# Altium footprint library QFN16P65_400X400X75L55X30T210N.PcbLib: 1 footprints
Each footprint in its own frame and in the unit in brackets; x right, y up, seen from the top. Pads: shape width x height; smd on the part's side, far side on the other; paste and mask are expansions set on the pad; w line width, h text height; cw(c..) or ccw(c..) is an arc to the next point about the centre after c.
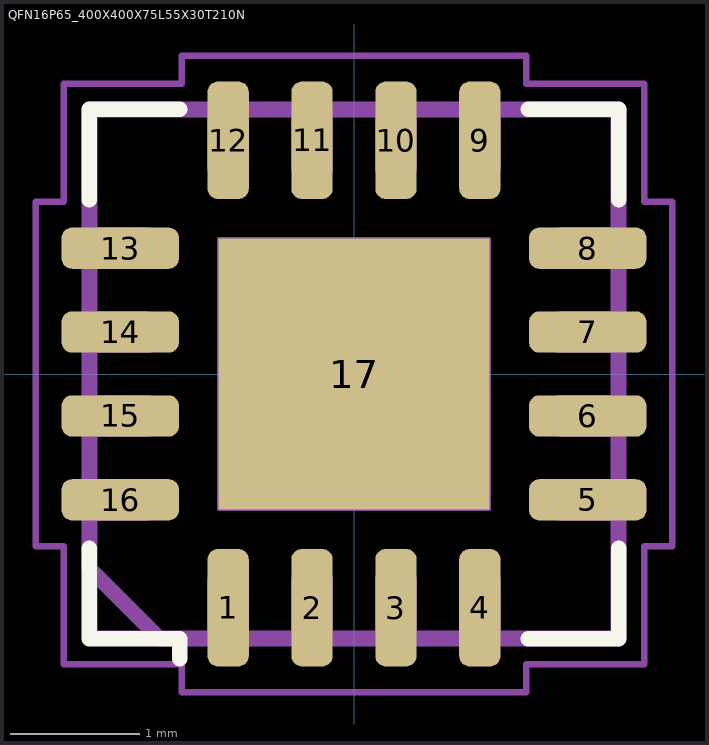
[diagram p0: the footprint, top view; thin cyan lines are the x and y axes]

## QFN16P65_400X400X75L55X30T210N [mm] "Quad Flat No-Lead (QFN) with Thermal Tab, 0.65 mm pitch;  square, 4 pin X 4 pin, 4.00 mm L X 4.00 mm W X 0.80 mm H Body"
height 0.8
pads (17):
  rrect50% 0.32x0.91 smd: 1(-0.975,-1.81) 2(-0.325,-1.81) 3(0.325,-1.81) 4(0.975,-1.81) 9(0.975,1.81) 10(0.325,1.81) 11(-0.325,1.81) 12(-0.975,1.81)
  rrect50% 0.91x0.32 smd: 5(1.81,-0.975) 6(1.81,-0.325) 7(1.81,0.325) 8(1.81,0.975) 13(-1.81,0.975) 14(-1.81,0.325) 15(-1.81,-0.325) 16(-1.81,-0.975)
  rect 2.1x2.1 smd paste-2.1: 17(0,0)
Top Overlay:
  lines w0.12: -2.05,-1.35 -2.05,-2.05 -1.35,-2.05 -1.35,-2.205 ; -2.05,1.35 -2.05,2.05 -1.35,2.05 ; 1.35,-2.05 2.05,-2.05 2.05,-1.35 ; 1.35,2.05 2.05,2.05 2.05,1.35
Top Paste:
  region: 0.896,-0.896 0.154,-0.896 0.154,-0.154 0.896,-0.154
  region: 0.896,0.154 0.154,0.154 0.154,0.896 0.896,0.896
  region: -0.154,-0.896 -0.896,-0.896 -0.896,-0.154 -0.154,-0.154
  region: -0.154,0.154 -0.896,0.154 -0.896,0.896 -0.154,0.896
Mechanical 3:
  lines w0.12: -2.05,-1.506 -1.506,-2.05 2.05,-2.05 2.05,2.05 -2.05,2.05 -2.05,-1.506
Mechanical 5:
  lines w0.025: -2.001,-1.125 -1.601,-1.125 ccw(c-1.601,-0.975) -1.601,-0.825 -2.001,-0.825 -2.001,-1.125 ; -2.001,-0.475 -1.601,-0.475 ccw(c-1.601,-0.325) -1.601,-0.175 -2.001,-0.175 -2.001,-0.475 ; -2.001,0.175 -1.601,0.175 ccw(c-1.601,0.325) -1.601,0.475 -2.001,0.475 -2.001,0.175 ; -2.001,0.825 -1.601,0.825 ccw(c-1.601,0.975) -1.601,1.125 -2.001,1.125 -2.001,0.825 ; -2,-2 -2,2 2,2 2,-2 -2,-2 ; -1.125,-2 -1.125,-1.6 cw(c-0.975,-1.6) -0.825,-1.6 -0.825,-2 -1.125,-2 ; -1.125,1.6 ccw(c-0.975,1.6) -0.825,1.6 -0.825,2 -1.125,2 -1.125,1.6 ; -1.05,-1.05 1.05,-1.05 1.05,1.05 -1.05,1.05 -1.05,-1.05 ; -0.475,-2 -0.475,-1.6 cw(c-0.325,-1.6) -0.175,-1.6 -0.175,-2 -0.475,-2 ; -0.475,1.6 ccw(c-0.325,1.6) -0.175,1.6 -0.175,2 -0.475,2 -0.475,1.6 ; 0.175,-2 0.175,-1.6 cw(c0.325,-1.6) 0.475,-1.6 0.475,-2 0.175,-2 ; 0.175,1.6 ccw(c0.325,1.6) 0.475,1.6 0.475,2 0.175,2 0.175,1.6 ; 0.825,-2 0.825,-1.6 cw(c0.975,-1.6) 1.125,-1.6 1.125,-2 0.825,-2 ; 0.825,1.6 ccw(c0.975,1.6) 1.125,1.6 1.125,2 0.825,2 0.825,1.6 ; 1.6,-1.125 cw(c1.6,-0.975) 1.6,-0.825 2,-0.825 2,-1.125 1.6,-1.125 ; 1.6,-0.475 cw(c1.6,-0.325) 1.6,-0.175 2,-0.175 2,-0.475 1.6,-0.475 ; 1.6,0.175 cw(c1.6,0.325) 1.6,0.475 2,0.475 2,0.175 1.6,0.175 ; 1.6,0.825 cw(c1.6,0.975) 1.6,1.125 2,1.125 2,0.825 1.6,0.825
Mechanical 7:
  circle w0.05: c0,0 r0.25
  lines w0.05: -0.35,0 0.35,0 ; 0,-0.35 0,0.35 ; -2.465,-1.335 -2.465,1.335 -2.25,1.335 -2.25,2.25 -1.335,2.25 -1.335,2.465 1.335,2.465 1.335,2.25 2.25,2.25 2.25,1.335 2.465,1.335 2.465,-1.335 2.25,-1.335 2.25,-2.25 1.335,-2.25 1.335,-2.465 -1.335,-2.465 -1.335,-2.25 -2.25,-2.25 -2.25,-1.335 -2.465,-1.335
Mechanical 9:
  text "'.Designator'" at -5.817,-0.271 h1.02
3D body "QFN17P65_400X400X75L55X30T210.STEP": height 0.8, standoff 0, extent -2.05,-2.05 2.05,2.05
3D body: height 0.8, standoff 0, extent -2.465,-2.465 2.465,2.465